# EAGLE library part 74AC11651 (library 74ac-logic)
Octal BUS TRANSCEIVER/REGISTER, 3-state
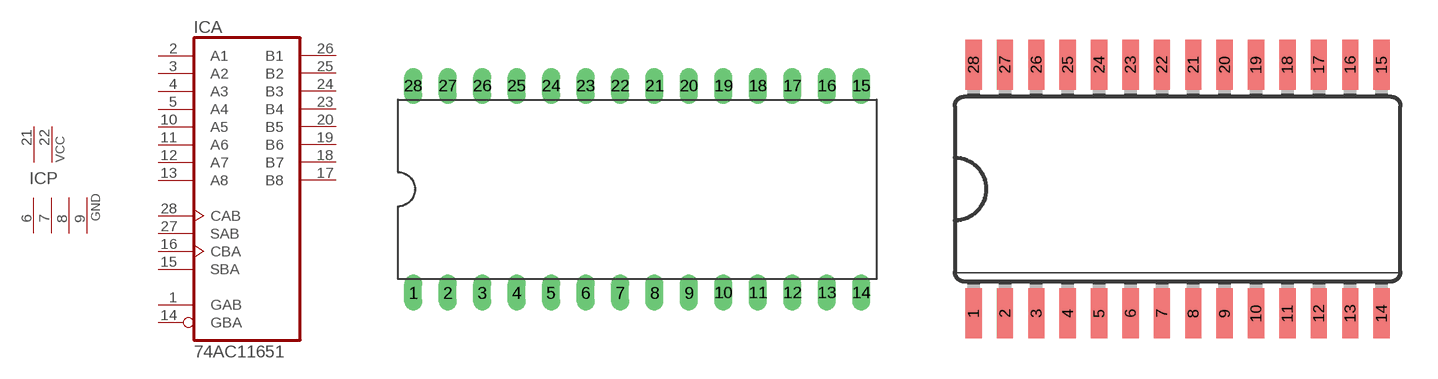
[diagram p25: symbol with the pads of DIL28-6; footprints DIL28-6, SO28W]

Designator prefix IC; gates A=7411651 P=2PWR4GND

## 74AC11651  [DIL28-6]
1  A:GAB  in
2  A:A1
3  A:A2
4  A:A3
5  A:A4
6  P:GND  pwr
7  P:GND  pwr
8  P:GND  pwr
9  P:GND  pwr
10  A:A5
11  A:A6
12  A:A7
13  A:A8
14  A:GBA  in
15  A:SBA  in
16  A:CBA  in
17  A:B8
18  A:B7
19  A:B6
20  A:B5
21  P:VCC  pwr
22  P:VCC  pwr
23  A:B4
24  A:B3
25  A:B2
26  A:B1
27  A:SAB  in
28  A:CAB  in

## 74AC11651D  [SO28W]
Pads as for DIL28-6

## Footprint DIL28-6 (pad centres in mm)
Dual In Line Package 0.6 inch
drill 0.813 long: 1 -16.51,-7.62; 2 -13.97,-7.62; 3 -11.43,-7.62; 4 -8.89,-7.62; 5 -6.35,-7.62; 6 -3.81,-7.62; 7 -1.27,-7.62; 8 1.27,-7.62; 9 3.81,-7.62; 10 6.35,-7.62; 11 8.89,-7.62; 12 11.43,-7.62; 13 13.97,-7.62; 14 16.51,-7.62; 15 16.51,7.62; 16 13.97,7.62; 17 11.43,7.62; 18 8.89,7.62; 19 6.35,7.62; 20 3.81,7.62; 21 1.27,7.62; 22 -1.27,7.62; 23 -3.81,7.62; 24 -6.35,7.62; 25 -8.89,7.62; 26 -11.43,7.62; 27 -13.97,7.62; 28 -16.51,7.62

## Footprint SO28W (pad centres in mm)
Wide Small Outline package 300 mil
smd 0.66 x 2.032: 1 -8.255,-5.029; 2 -6.985,-5.029; 3 -5.715,-5.029; 4 -4.445,-5.029; 5 -3.175,-5.029; 6 -1.905,-5.029; 7 -0.635,-5.029; 8 0.635,-5.029; 9 1.905,-5.029; 10 3.175,-5.029; 11 4.445,-5.029; 12 5.715,-5.029; 13 6.985,-5.029; 14 8.255,-5.029; 15 8.255,5.029; 16 6.985,5.029; 17 5.715,5.029; 18 4.445,5.029; 19 3.175,5.029; 20 1.905,5.029; 21 0.635,5.029; 22 -0.635,5.029; 23 -1.905,5.029; 24 -3.175,5.029; 25 -4.445,5.029; 26 -5.715,5.029; 27 -6.985,5.029; 28 -8.255,5.029